# Altium schematic symbol library Inductors.SchLib: 14 symbols
Pins are listed as number, name and electrical type; pins without a type are passive.

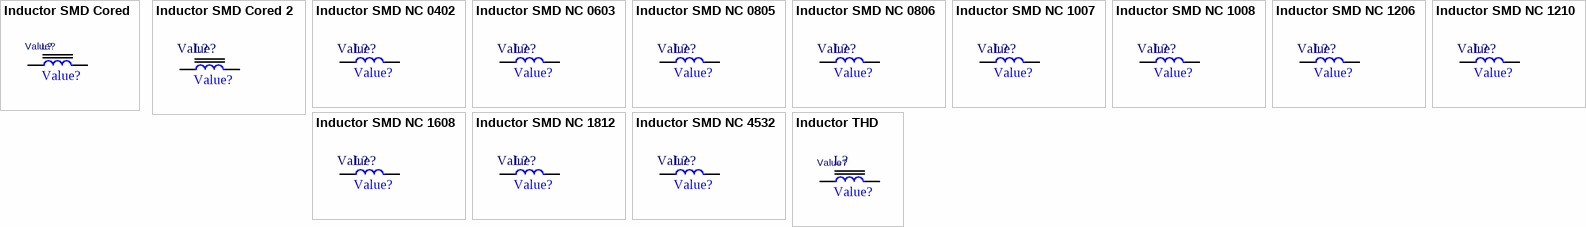
[diagram p0: symbols Inductor SMD Cored to Inductor THD]

## Inductor SMD Cored
designator L?, comment Value?
Inductor SMD Cored; DatasheetVersion: 2022; Value: Value?
pins: 1, 2

## Inductor SMD Cored 2
designator L?, comment Value?
Inductor SMD Cored 2; DatasheetVersion: 2022; Value: Value?
pins: 1, 2

## Inductor SMD NC 0402
designator L?, comment Value?
Inductor SMD NC 0402; DatasheetVersion: 2022; Value: Value?
pins: 1, 2

## Inductor SMD NC 0603
designator L?, comment Value?
Inductor SMD NC 0603; DatasheetVersion: 2022; Value: Value?
pins: 1, 2

## Inductor SMD NC 0805
designator L?, comment Value?
Inductor SMD NC 0805; DatasheetVersion: 2022; Value: Value?
pins: 1, 2

## Inductor SMD NC 0806
designator L?, comment Value?
Inductor SMD NC 0806; DatasheetVersion: 2022; Value: Value?
pins: 1, 2

## Inductor SMD NC 1007
designator L?, comment Value?
Inductor SMD NC 1007; DatasheetVersion: 2022; Value: Value?
pins: 1, 2

## Inductor SMD NC 1008
designator L?, comment Value?
Inductor SMD NC 1008; DatasheetVersion: 2022; Value: Value?
pins: 1, 2

## Inductor SMD NC 1206
designator L?, comment Value?
Inductor SMD NC 1206; DatasheetVersion: 2022; Value: Value?
pins: 1, 2

## Inductor SMD NC 1210
designator L?, comment Value?
Inductor SMD NC 1210; DatasheetVersion: 2022; Value: Value?
pins: 1, 2

## Inductor SMD NC 1608
designator L?, comment Value?
Inductor SMD NC 1608; DatasheetVersion: 2022; Value: Value?
pins: 1, 2

## Inductor SMD NC 1812
designator L?, comment Value?
Inductor SMD NC 1812; DatasheetVersion: 2022; Value: Value?
pins: 1, 2

## Inductor SMD NC 4532
designator L?, comment Value?
Inductor SMD NC 4532; DatasheetVersion: 2022; Value: Value?
pins: 1, 2

## Inductor THD
designator L?, comment Value?
Inductor THD; DatasheetVersion: 2022; Value: Value?
pins: 1, 2